# Altium footprint library KP107.PcbLib: 1 footprints
Each footprint in its own frame and in the unit in brackets; x right, y up, seen from the top. Pads: shape width x height; smd on the part's side, far side on the other; paste and mask are expansions set on the pad; w line width, h text height; cw(c..) or ccw(c..) is an arc to the next point about the centre after c.
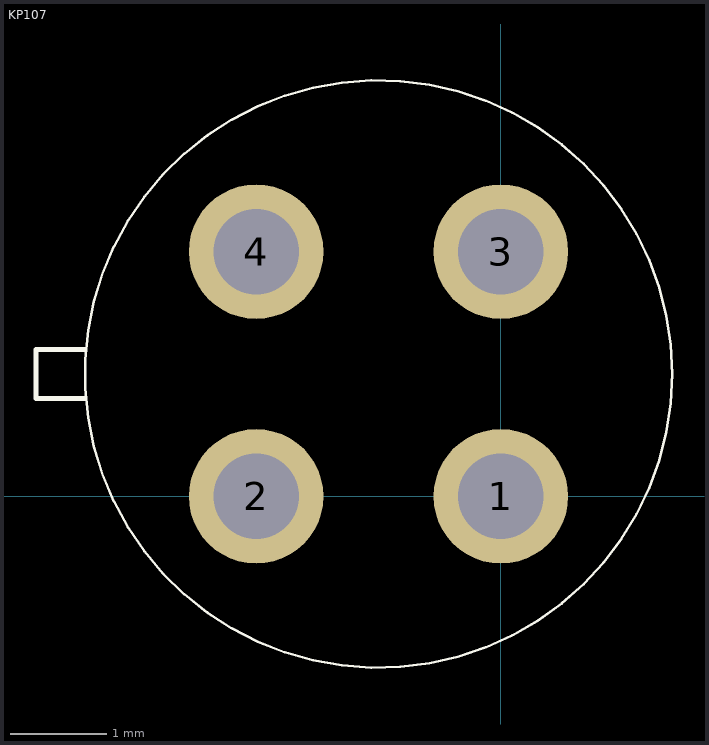
[diagram p0: the footprint, top view; thin cyan lines are the x and y axes]

## KP107 [mil]
pads (4):
  round 55 hole 35: 1(0,0) 2(-100,0) 3(0,100) 4(-100,100)
Top Overlay:
  circle w1: c-50,50 r120
  lines w2: -170,40 -190,40 -190,60 -170,60